# EAGLE library part ADP322 (library reg1)
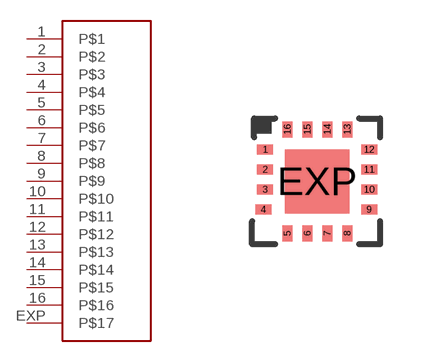
[diagram p0: symbol with the pads of LFCSP_LQ-16; footprint LFCSP_LQ-16]

Designator prefix -

## ADP322  [LFCSP_LQ-16]
1  P$1
2  P$2
3  P$3
4  P$4
5  P$5
6  P$6
7  P$7
8  P$8
9  P$9
10  P$10
11  P$11
12  P$12
13  P$13
14  P$14
15  P$15
16  P$16
EXP  P$17

## Footprint LFCSP_LQ-16 (pad centres in mm)
smd 0.4 x 0.25: 1 -1.35,0.8; 2 -1.35,0.3; 3 -1.35,-0.2; 4 -1.4,-0.7; 9 1.25,-0.7; 10 1.25,-0.2; 11 1.25,0.3; 12 1.25,0.8
smd 0.25 x 0.4: 5 -0.8,-1.3; 6 -0.3,-1.3; 7 0.2,-1.3; 8 0.7,-1.3; 13 0.7,1.3; 14 0.2,1.3; 15 -0.3,1.3; 16 -0.8,1.3
smd 1.6 x 1.6: EXP -0.05,0